# Altium footprint library SOT323-5_H.PcbLib: 1 footprints
Each footprint in its own frame and in the unit in brackets; x right, y up, seen from the top. Pads: shape width x height; smd on the part's side, far side on the other; paste and mask are expansions set on the pad; w line width, h text height; cw(c..) or ccw(c..) is an arc to the next point about the centre after c.
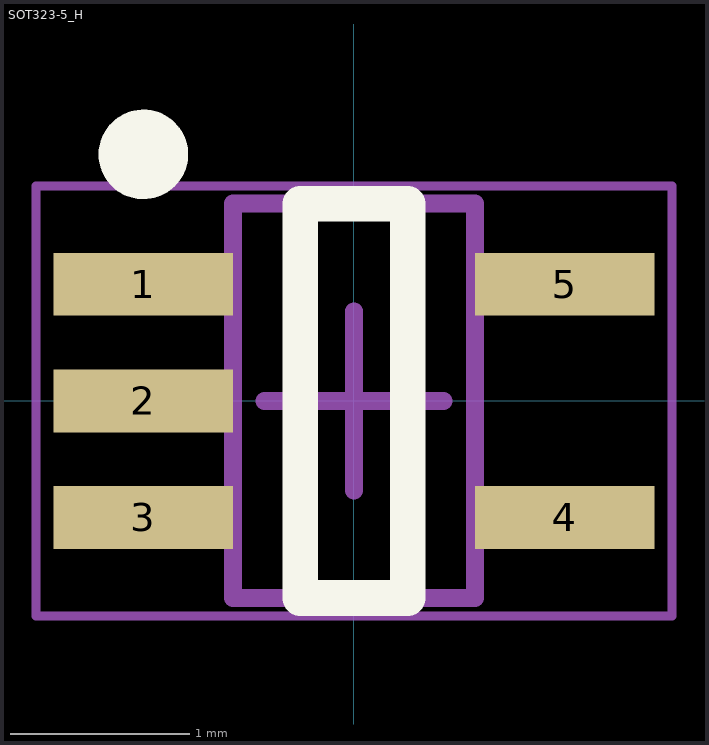
[diagram p0: the footprint, top view; thin cyan lines are the x and y axes]

## SOT323-5_H [mm] "SOT23, 5-Leads, Body 2,00x2,90mm, Pitch 0,65mm, IPC High Density"
height 1.1
pads (5):
  rect 1x0.35 smd: 1(-1.175,0.65) 2(-1.175,0) 3(-1.175,-0.65) 4(1.175,-0.65) 5(1.175,0.65)
Top Overlay:
  circle w0.25: c-1.175,1.375 r0.125
  lines w0.2: -0.3,-1.1 -0.3,1.1 0.3,1.1 0.3,-1.1 -0.3,-1.1
Mechanical 13:
  lines w0.1: -0.675,-1.1 0.675,-1.1 0.675,1.1 -0.675,1.1 -0.675,-1.1
Mechanical 15:
  lines w0.05: -1.775,-1.2 1.775,-1.2 1.775,1.2 -1.775,1.2 -1.775,-1.2
  lines w0.1: -0.5,0 0.5,0 ; 0,-0.5 0,0.5
Mechanical 17:
  text "'.Designator'" at -0.381,1.016 h0.76
Mechanical 19:
3D body: height 0.25, standoff 0, extent -0.635,1.016 -0.635,1.016
3D body: height 0.25, standoff 0, extent 0,0 0,0
3D body "User Library-SOT-323-5L.step": height 1, standoff 0, extent -1.051,-1.05 1.051,1.05